# Altium schematic symbol library PC_PSU.SchLib: 4 symbols
Pins are listed as number, name and electrical type; pins without a type are passive.

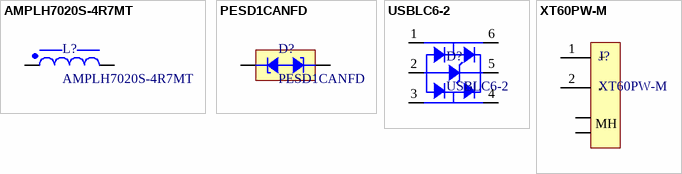
[diagram p0: symbols AMPLH7020S-4R7MT to XT60PW-M]

## AMPLH7020S-4R7MT
designator L?
FIXED IND 4.7UH 5.5A 45.6MOHM SM
footprint INDP7366X20N (Precision Wire Wound Inductor, 2-Leads, Body 7,30x6,60mm, IPC Medium Density)
pins: 1, 2

## PESD1CANFD
designator D?
Extremely low clamping bidirectional ESD protection diode
footprint DIOM1006X05N (Molded Diode, 2-Leads, Body 1,00x0,60mm, IPC Medium Density)
pins: 1, 2

## USBLC6-2
designator D?
Very low capacitance ESD protection
footprint SOT95P280X145-6N (SOT23, 6-Leads, Body 2,93x2,80mm, Pitch 0,95mm, IPC Medium Density)
pins: 1, 2, 3, 4, 5, 6

## XT60PW-M
designator J?
Connector: DC supply; socket; XT60; male; PIN: 2; on PCBs; THT; 30A
footprint XT60PW-M
pins: 1 +, 2 -, MH1 3, MH2 4
text: MH